# Altium schematic symbol library L78L33CD-TR.SchLib: 1 symbol
Pins are listed as number, name and electrical type; pins without a type are passive.

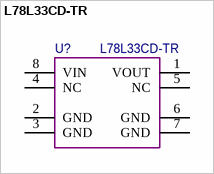
[diagram p0: symbol L78L33CD-TR]

## L78L33CD-TR
designator U?
pins: 1 VOUT, 2 GND, 3 GND, 4 NC, 5 NC, 6 GND, 7 GND, 8 VIN